# EAGLE library part 6DY5 (library tubes_pmillett)
Power pentode, base 9CV (EL84, 6BQ5, etc.)
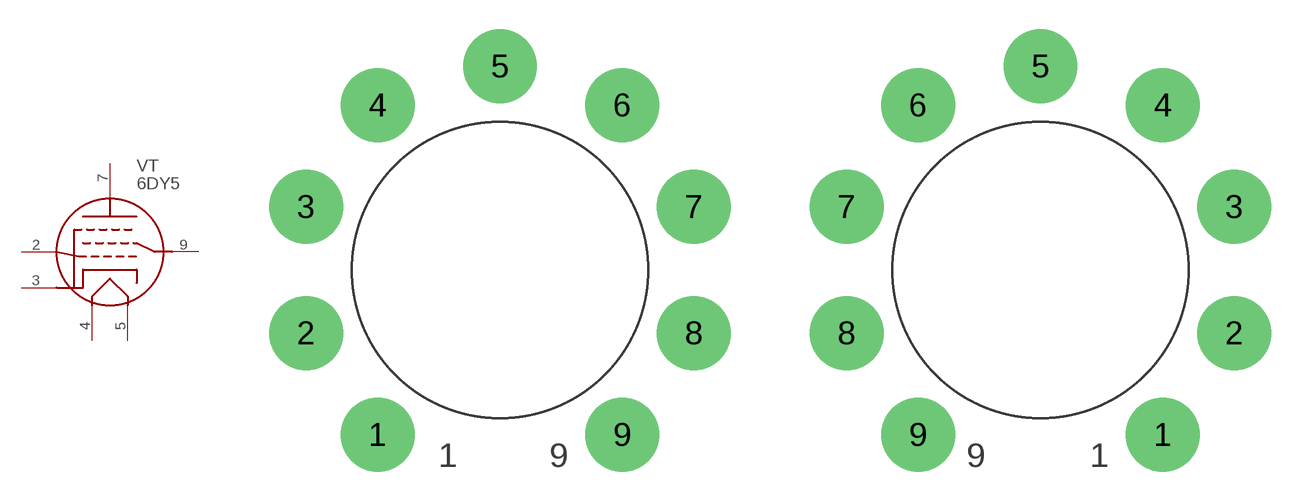
[diagram p110: symbol with the pads of NOVAL_BOTTOM_PCB; footprints NOVAL_BOTTOM_PCB, NOVAL_PCB]

Designator prefix VT

## 6DY5  [NOVAL_BOTTOM_PCB]
2  G1  pas
3  K_G3  pas
4  H1  pas
5  H2  pas
7  P  pas
9  G2  pas

## 6DY5_TOP  [NOVAL_PCB]
Pads as for NOVAL_BOTTOM_PCB

## Footprint NOVAL_BOTTOM_PCB (pad centres in mm)
Standard 9-pin socket (Chinese ceramic, Belton, etc.), mounted bottom side
drill 1.93 pad 3.81: 1 -6.299,-8.484; 2 -9.982,-3.251; 3 -9.982,3.251; 4 -6.299,8.484; 5 0,10.49; 6 6.299,8.484; 7 9.982,3.251; 8 9.982,-3.251; 9 6.299,-8.484

## Footprint NOVAL_PCB (pad centres in mm)
TUBE SOCKET, NOVAL PCB
drill 1.93 pad 3.81: 1 6.299,-8.484; 2 9.982,-3.251; 3 9.982,3.251; 4 6.299,8.484; 5 0,10.49; 6 -6.299,8.484; 7 -9.982,3.251; 8 -9.982,-3.251; 9 -6.299,-8.484